# Altium footprint library NetTroll.PcbLib: 63 footprints (part 3 of 4)
Each footprint in its own frame and in the unit in brackets; x right, y up, seen from the top. Pads: shape width x height; smd on the part's side, far side on the other; paste and mask are expansions set on the pad; w line width, h text height; cw(c..) or ccw(c..) is an arc to the next point about the centre after c.
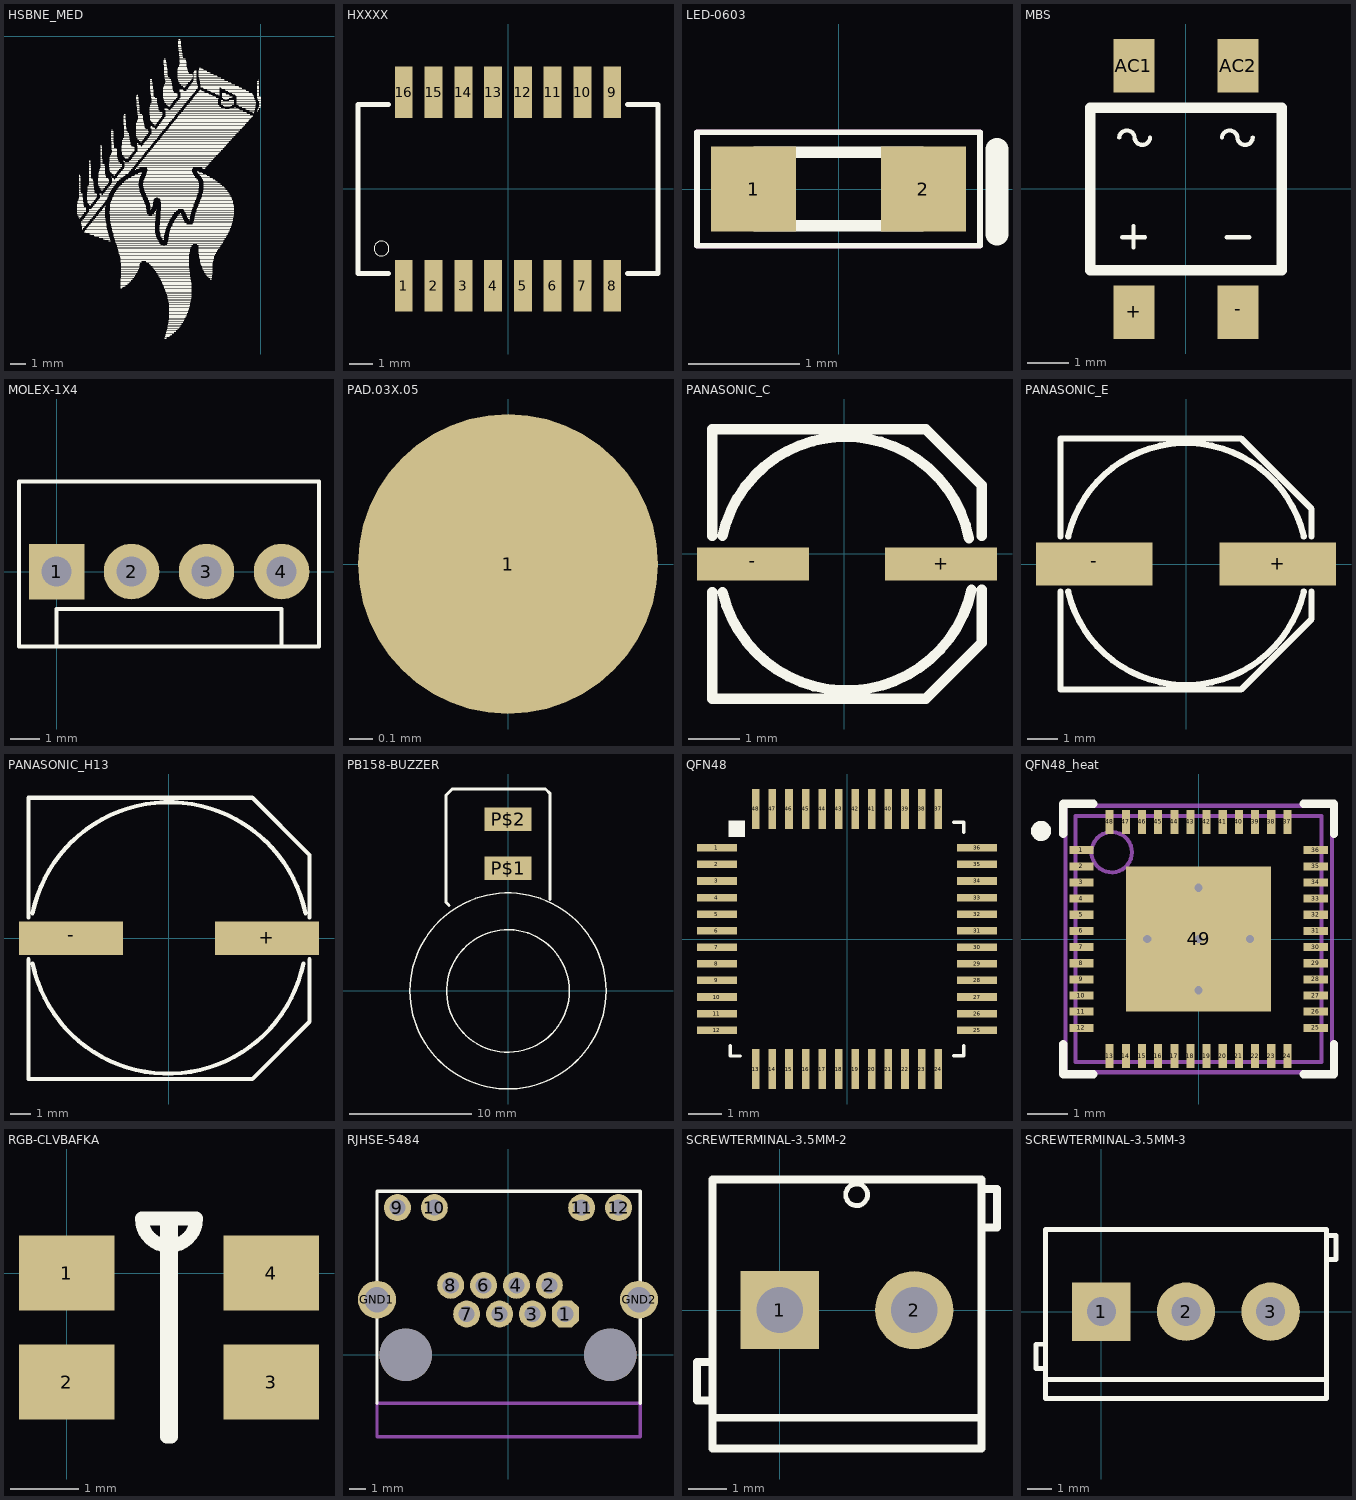
[diagram p2: the footprints below, top view; thin cyan lines are the x and y axes]

## HSBNE_MED [mm]
Top Overlay:
  drawing of 3186 lines, arcs and shapes, not listed

## HXXXX [mm]
pads (16):
  rect 0.76x2.2 smd: 1(-4.445,-4.128) 2(-3.175,-4.128) 3(-1.905,-4.128) 4(-0.635,-4.128) 5(0.635,-4.128) 6(1.905,-4.128) 7(3.175,-4.128) 8(4.445,-4.128) 9(4.445,4.127) 10(3.175,4.127) 11(1.905,4.127) 12(0.635,4.127) 13(-0.635,4.127) 14(-1.905,4.127) 15(-3.175,4.127) 16(-4.445,4.127)
Top Overlay:
  circle w0.008: c-5.397,-2.54 r0.318
  lines w0.203: -5.1,-3.6 -6.4,-3.6 -6.4,3.6 -5.1,3.6 ; 5.1,-3.6 6.4,-3.6 6.4,3.6 5.1,3.6
3D body: height 6, standoff 0, extent -6.375,-4.275 6.375,4.125

## LED-0603 [mil]
pads (2):
  rect 30x30 smd: 1(-30,0) 2(30,0)
Top Overlay:
  rectangle: -30,-15 -15,15
  rectangle: 15,-15 30,15
  lines w4: -20,-13 20,-13 ; -20,13 20,13
  lines w8: 56,-16 56,14
Top Overlay keep-out:
  lines w2: -50,-20 50,-20 50,20 -50,20 -50,-20

## MBS [mm]
pads (4):
  rect 1x1.3 smd: +(-1.27,-3) -(1.27,-3) AC1(-1.27,3) AC2(1.27,3)
Top Overlay:
  lines w0.102: -1.625,1.25 cw(c-1.437,1.237) -1.25,1.25 ccw(c-1.062,1.263) -0.875,1.25 ; -1.55,-1.175 -1,-1.175 ; -1.275,-1.425 -1.275,-0.9 ; 0.875,1.25 cw(c1.062,1.237) 1.25,1.25 ccw(c1.438,1.263) 1.625,1.25 ; 0.99,-1.175 1.54,-1.175
  lines w0.254: -2.325,-1.975 -2.325,1.975 2.325,1.975 2.325,-1.975 -2.325,-1.975
3D body: height 2.7, standoff 0, extent -2.375,-2 2.375,2

## MOLEX-1X4 [mil]
pads (4):
  rect 74x74 hole 40: 1(0,0)
  round 74 hole 40: 2(100,0) 3(200,0) 4(300,0)
Top Overlay:
  lines w5: 0,-100 0,-50 300,-50 300,-100 ; 0,-100 -50,-100 -50,120 350,120 350,-100 300,-100 ; 0,-100 300,-100

## PAD.03X.05 [mm]
pads (1):
  round 1.27 smd: 1(0,0)

## PANASONIC_C [mm]
pads (2):
  rect 2.2x0.65 smd: +(1.9,-0.2) -(-1.8,-0.2)
Top Overlay:
  lines w0.102: -2.6,-2.85 1.6,-2.85 2.7,-1.75 ; -2.6,2.45 1.6,2.45 2.7,1.35
  lines w0.203: -2.6,-0.75 -2.6,-2.85 1.6,-2.85 2.7,-1.75 2.7,-0.7 ; -2.6,0.35 -2.6,2.45 1.6,2.45 2.7,1.35 2.7,0.35 ; -2.4,-0.75 ccw(c0.044,-0.175) 2.5,-0.7 ; -2.4,0.35 cw(c0.02,-0.175) 2.45,0.3
3D body: height 5.4, standoff 0, extent -2.455,-2.72 2.525,2.27
3D body: height 1, standoff 0, extent -2.625,-2.875 2.75,2.5

## PANASONIC_E [mm]
pads (2):
  rect 3.8x1.4 smd: +(3,0) -(-3,0)
Top Overlay:
  lines w0.102: -4.1,-4.1 1.8,-4.1 4.1,-1.8 ; -4.1,4.1 1.8,4.1 4.1,1.8
  lines w0.203: -4.1,-0.9 -4.1,-4.1 1.8,-4.1 4.1,-1.8 4.1,-0.9 ; -4.1,0.9 -4.1,4.1 1.8,4.1 4.1,1.8 4.1,0.9 ; -3.85,-0.9 ccw(c0,0) 3.85,-0.9 ; -3.85,0.9 cw(c0,0) 3.85,0.9
3D body: height 6.2, standoff 0, extent -3.993,-3.992 3.975,3.992
3D body: height 1, standoff 0, extent -4.125,-4.125 4.15,4.15

## PANASONIC_H13 [mm]
pads (2):
  rect 5x1.6 smd: +(4.7,0) -(-4.7,0)
Top Overlay:
  lines w0.102: -6.75,-6.75 4,-6.75 6.75,-4 ; -6.75,6.75 4,6.75 6.75,4
  lines w0.203: -6.75,-1 -6.75,-6.75 4,-6.75 6.75,-4 6.75,-1 ; -6.75,1 -6.75,6.75 4,6.75 6.75,4 6.75,1 ; -6.55,-1.2 ccw(c-0.05,0.14) 6.45,-1.2 ; -6.55,1.2 cw(c0,-0.151) 6.55,1.2
3D body: height 13.5, standoff 0, extent -6.326,-6.213 6.125,6.263
3D body: height 1, standoff 0, extent -6.75,-6.75 6.75,6.75

## PB158-BUZZER [mil]
pads (2):
  rect 150x76 smd: P$1(0,393.7) P$2(0,551.18)
Top Overlay:
  circle w5: c0,0 r314.96
  circle w5: c0,0 r196.85
  lines w10: -189.37,274.8 -199.21,284.64 -199.21,629.13 -179.52,648.82 120.67,648.82 135.44,634.05 135.44,294.49

## QFN48 [mm]
pads (48):
  rect 1.2x0.23 smd: 1(-3.925,2.75) 2(-3.925,2.25) 3(-3.925,1.75) 4(-3.925,1.25) 5(-3.925,0.75) 6(-3.925,0.25) 7(-3.925,-0.25) 8(-3.925,-0.75) 9(-3.925,-1.25) 10(-3.925,-1.75) 11(-3.925,-2.25) 12(-3.925,-2.75) 25(3.925,-2.75) 26(3.925,-2.25) 27(3.925,-1.75) 28(3.925,-1.25) 29(3.925,-0.75) 30(3.925,-0.25) 31(3.925,0.25) 32(3.925,0.75) 33(3.925,1.25) 34(3.925,1.75) 35(3.925,2.25) 36(3.925,2.75)
  rect 0.23x1.2 smd: 13(-2.75,-3.925) 14(-2.25,-3.925) 15(-1.75,-3.925) 16(-1.25,-3.925) 17(-0.75,-3.925) 18(-0.25,-3.925) 19(0.25,-3.925) 20(0.75,-3.925) 21(1.25,-3.925) 22(1.75,-3.925) 23(2.25,-3.925) 24(2.75,-3.925) 37(2.75,3.925) 38(2.25,3.925) 39(1.75,3.925) 40(1.25,3.925) 41(0.75,3.925) 42(0.25,3.925) 43(-0.25,3.925) 44(-0.75,3.925) 45(-1.25,3.925) 46(-1.75,3.925) 47(-2.25,3.925) 48(-2.75,3.925)
Top Overlay:
  rectangle: -3.573,3.073 -3.073,3.573
  lines w0.102: -3.525,-3.225 -3.525,-3.531 -3.225,-3.531 ; 3.225,-3.525 3.525,-3.525 3.525,-3.225 ; 3.225,3.525 3.525,3.525 3.525,3.225

## QFN48_heat [mm] "QFN, 48-Leads"
height 0.4
pads (49):
  rect 0.6x0.2 smd paste-0.125 mask+0.051: 1(-2.9,2.2) 2(-2.9,1.8) 3(-2.9,1.4) 4(-2.9,1) 5(-2.9,0.6) 6(-2.9,0.2) 7(-2.9,-0.2) 8(-2.9,-0.6) 9(-2.9,-1) 10(-2.9,-1.4) 11(-2.9,-1.8) 12(-2.9,-2.2) 25(2.9,-2.2) 26(2.9,-1.8) 27(2.9,-1.4) 28(2.9,-1) 29(2.9,-0.6) 30(2.9,-0.2) 31(2.9,0.2) 32(2.9,0.6) 33(2.9,1) 34(2.9,1.4) 35(2.9,1.8) 36(2.9,2.2)
  rect 0.2x0.6 smd paste-0.125 mask+0.051: 13(-2.2,-2.9) 14(-1.8,-2.9) 15(-1.4,-2.9) 16(-1,-2.9) 17(-0.6,-2.9) 18(-0.2,-2.9) 19(0.2,-2.9) 20(0.6,-2.9) 21(1,-2.9) 22(1.4,-2.9) 23(1.8,-2.9) 24(2.2,-2.9) 37(2.2,2.9) 38(1.8,2.9) 39(1.4,2.9) 40(1,2.9) 41(0.6,2.9) 42(0.2,2.9) 43(-0.2,2.9) 44(-0.6,2.9) 45(-1,2.9) 46(-1.4,2.9) 47(-1.8,2.9) 48(-2.2,2.9)
  rect 3.6x3.6 smd paste-1.8 mask+0.051: 49(0,0)
via 0,0 diameter 0.5 hole 0.2
via 0,1.27 diameter 0.5 hole 0.2
via -1.27,0 diameter 0.5 hole 0.2
via 0,-1.27 diameter 0.5 hole 0.2
via 1.27,0 diameter 0.5 hole 0.2
Top Overlay:
  circle w0.25: c-3.9,2.675 r0.125
  lines w0.2: -3.35,-2.6 -3.35,-3.35 -2.6,-3.35 ; -3.35,2.6 -3.35,3.35 -2.6,3.35 ; 2.6,-3.35 3.35,-3.35 3.35,-2.6 ; 2.6,3.35 3.35,3.35 3.35,2.6
Top Paste:
  region: 2.1,3.4 2.1,2.7 2.3,2.7 2.3,3.4
  region: 1.7,3.4 1.7,2.7 1.9,2.7 1.9,3.4
  region: 1.3,3.4 1.3,2.7 1.5,2.7 1.5,3.4
  region: 0.9,3.4 0.9,2.7 1.1,2.7 1.1,3.4
  region: 0.5,3.4 0.5,2.7 0.7,2.7 0.7,3.4
  region: 0.1,3.4 0.1,2.7 0.3,2.7 0.3,3.4
  region: -2.3,3.4 -2.3,2.7 -2.1,2.7 -2.1,3.4
  region: -1.9,3.4 -1.9,2.7 -1.7,2.7 -1.7,3.4
  region: -1.5,3.4 -1.5,2.7 -1.3,2.7 -1.3,3.4
  region: -1.1,3.4 -1.1,2.7 -0.9,2.7 -0.9,3.4
  region: -0.7,3.4 -0.7,2.7 -0.5,2.7 -0.5,3.4
  region: -0.3,3.4 -0.3,2.7 -0.1,2.7 -0.1,3.4
  region: 3.4,-2.1 2.7,-2.1 2.7,-2.3 3.4,-2.3
  region: 3.4,-1.7 2.7,-1.7 2.7,-1.9 3.4,-1.9
  region: 3.4,-1.3 2.7,-1.3 2.7,-1.5 3.4,-1.5
  region: 3.4,-0.9 2.7,-0.9 2.7,-1.1 3.4,-1.1
  region: 3.4,-0.5 2.7,-0.5 2.7,-0.7 3.4,-0.7
  region: 3.4,-0.1 2.7,-0.1 2.7,-0.3 3.4,-0.3
  region: 3.4,2.3 2.7,2.3 2.7,2.1 3.4,2.1
  region: 3.4,1.9 2.7,1.9 2.7,1.7 3.4,1.7
  region: 3.404,1.499 2.704,1.499 2.704,1.295 3.404,1.295
  region: 3.4,1.1 2.7,1.1 2.7,0.9 3.4,0.9
  region: 3.4,0.7 2.7,0.7 2.7,0.5 3.4,0.5
  region: 3.4,0.3 2.7,0.3 2.7,0.1 3.4,0.1
  region: -2.1,-3.4 -2.1,-2.7 -2.3,-2.7 -2.3,-3.4
  region: -1.7,-3.4 -1.7,-2.7 -1.9,-2.7 -1.9,-3.4
  region: -1.3,-3.4 -1.3,-2.7 -1.5,-2.7 -1.5,-3.4
  region: -0.9,-3.4 -0.9,-2.7 -1.1,-2.7 -1.1,-3.4
  region: -0.5,-3.4 -0.5,-2.7 -0.7,-2.7 -0.7,-3.4
  region: -0.1,-3.4 -0.1,-2.7 -0.3,-2.7 -0.3,-3.4
  region: 2.3,-3.4 2.3,-2.7 2.1,-2.7 2.1,-3.4
  region: 1.9,-3.4 1.9,-2.7 1.7,-2.7 1.7,-3.4
  region: 1.5,-3.4 1.5,-2.7 1.3,-2.7 1.3,-3.4
  region: 1.1,-3.4 1.1,-2.7 0.9,-2.7 0.9,-3.4
  region: 0.7,-3.4 0.7,-2.7 0.5,-2.7 0.5,-3.4
  region: 0.3,-3.4 0.3,-2.7 0.1,-2.7 0.1,-3.4
  rectangle: -3.4,-0.3 -2.7,-0.1
  rectangle: -3.4,-0.7 -2.7,-0.5
  rectangle: -3.4,-1.1 -2.7,-0.9
  rectangle: -3.4,-1.5 -2.7,-1.3
  rectangle: -3.4,-1.9 -2.7,-1.7
  rectangle: -3.4,-2.3 -2.7,-2.1
  rectangle: -3.4,0.1 -2.7,0.3
  rectangle: -3.4,0.5 -2.7,0.7
  rectangle: -3.4,0.9 -2.7,1.1
  rectangle: -3.4,1.3 -2.7,1.5
  rectangle: -3.4,1.7 -2.7,1.9
  rectangle: -3.4,2.1 -2.7,2.3
  rectangle: 0.1,-1.6 1.6,-0.1
  region: -0.1,-0.1 -1.6,-0.1 -1.6,-1.6 -0.1,-1.6
  region: -0.1,1.6 -1.6,1.6 -1.6,0.1 -0.1,0.1
  rectangle: 0.1,0.1 1.6,1.6
Mechanical 13:
  circle w0.1: c-2.15,2.15 r0.5
  lines w0.1: -3.05,-3.05 -3.05,3.05 3.05,3.05 3.05,-3.05 -3.05,-3.05
Mechanical 15:
  lines w0.1: -0.5,0 0.5,0 ; 0,-0.5 0,0.5 ; -3.3,-3.3 -3.3,3.3 3.3,3.3 3.3,-3.3 -3.3,-3.3
3D body: height 0.4, standoff 0, extent -3.049,-3.049 3.049,3.049

## RGB-CLVBAFKA [mm]
pads (4):
  rect 1.4x1.1 smd: 1(0,0) 2(0,-1.6) 3(3,-1.6) 4(3,0)
Top Overlay:
  lines w0.2: 1.1,0.8 ccw(c1.5,0.8) 1.9,0.8 1.465,0.8 1.465,-2.4 1.535,-2.4 1.535,0.8 1.1,0.8

## RJHSE-5484 [mm]
pads (16):
  oct 1.676x1.676 hole 1: 1(3.555,2.54)
  round 1.676 hole 1: 2(2.565,4.32) 3(1.515,2.54) 4(0.525,4.32) 5(-0.525,2.54) 6(-1.515,4.32) 7(-2.565,2.54) 8(-3.555,4.32) 9(-6.86,9.14) 10(-4.57,9.14) 11(4.57,9.14) 12(6.86,9.14)
  round 2.355 hole 1.57: GND1(-8.13,3.43) GND2(8.13,3.43)
  round 3.25 hole 3.25 unplated: ""(-6.35,0) ""(6.35,0)
Top Overlay:
  lines w0.203: -8.13,-3 -8.13,10.16 8.2,10.16 8.2,-3
Mechanical 1:
  lines w0.203: -8.13,-5.08 -8.13,-3 8.2,-3 8.2,-5.08 -8.13,-5.08
3D body: height 13.46, standoff 0, extent -8.13,-5.08 8.2,10.15

## SCREWTERMINAL-3.5MM-2 [mil]
pads (2):
  rect 80x80 hole 47.24: 1(0,0)
  round 80 hole 47.24: 2(137.79,0)
Top Overlay:
  circle w5: c78.74,118.11 r11.13
  lines w8: -68.9,-92.52 -84.65,-92.52 -84.65,-53.15 -68.9,-53.15 ; 206.69,84.65 222.44,84.65 222.44,124.02 206.69,124.02 ; -68.9,-110.23 206.69,-110.23 ; -68.9,-110.23 -68.9,133.86 206.69,133.86 206.69,-110.23 ; -68.9,-110.23 -68.9,-141.73 206.69,-141.73 206.69,-110.23
3D body: height 326.77, standoff 0, extent -68.9,-142.72 206.69,132.87

## SCREWTERMINAL-3.5MM-3 [mil]
pads (3):
  rect 95x95 hole 47.24: 1(0,0)
  round 95 hole 47.24: 2(137.8,0) 3(275.59,0)
Top Overlay:
  lines w8: -90.55,-92.52 -106.3,-92.52 -106.3,-53.15 -90.55,-53.15 ; 366.14,84.65 381.89,84.65 381.89,124.02 366.14,124.02 ; -90.55,-110.24 366.14,-110.24 ; -90.55,-110.24 -90.55,133.86 366.14,133.86 366.14,-110.24 ; -90.55,-110.24 -90.55,-141.73 366.14,-141.73 366.14,-110.24